# Altium schematic symbol library microlab.SchLib: 6 symbols
Pins are listed as number, name and electrical type; pins without a type are passive.

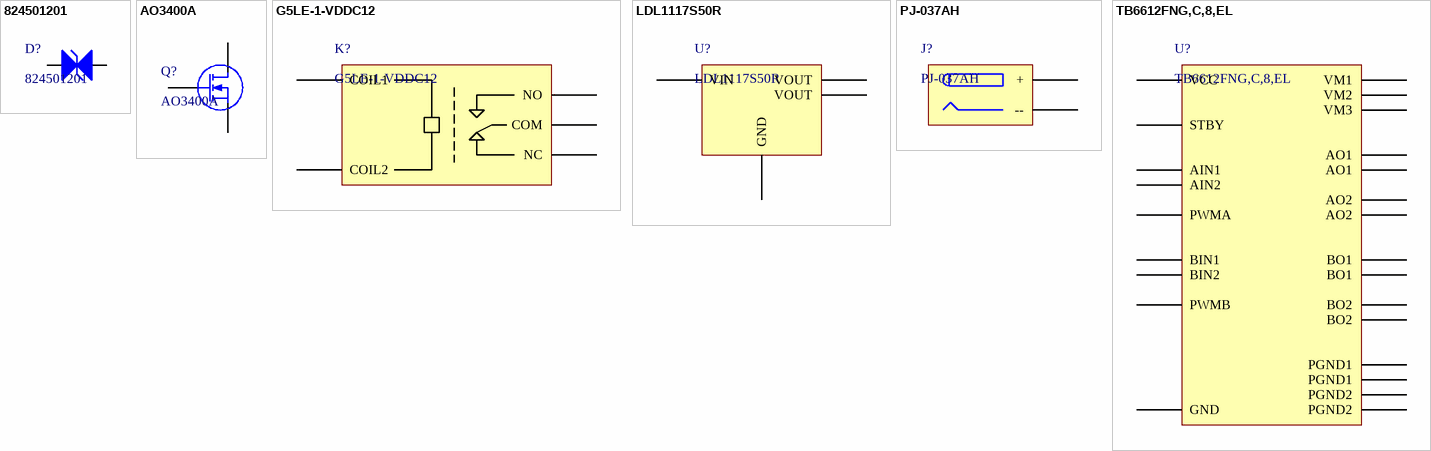
[diagram p0: symbols 824501201 to TB6612FNG,C,8,EL]

## 824501201
designator D?
TVS DIODE 20V 32.4V DO214AC; Digikey: 732-9954-1-ND
footprint 824501201 (DO-214AC)
pins: 1 A, 2 K

## AO3400A
designator Q?
MOSFET N-CH 30V 5.7A SOT23; Digikey: 785-1000-1-ND
footprint AO3400A (SOT-23-3L)
pins: D, G, S

## G5LE-1-VDDC12
designator K?
RELAY GEN PURPOSE SPDT 10A 12V; Digikey: Z3672-ND
footprint G5LE-1-VDDC12 (SPDT (1c))
pins: 1 COM, 2 COIL1, 3 NO, 4 NC, 5 COIL2

## LDL1117S50R
designator U?
IC REG LINEAR 5V 1.2A SOT223; Digikey: 497-17240-1-ND
footprint LDL1117S50R (SOT-223)
pins: 1 GND, 2 VOUT, 3 VIN, 4 VOUT

## PJ-037AH
designator J?
CONN PWR JACK 2X5.5MM SOLDER; Digikey: CP-037AH-ND
footprint PJ-037AH
pins: 1 +, 2 --

## TB6612FNG,C,8,EL
designator U?
IC MOTOR DRIVER PAR 24SSOP; Digikey: TB6612FNGC8ELCT-ND
footprint TB6612FNG,C,8,EL (24-SSOP)
pins: 1 AO1, 2 AO1, 3 PGND1, 4 PGND1, 5 AO2, 6 AO2, 7 BO2, 8 BO2, 9 PGND2, 10 PGND2, 11 BO1, 12 BO1, 13 VM2, 14 VM3, 15 PWMB, 16 BIN2, 17 BIN1, 18 GND, 19 STBY, 20 VCC, 21 AIN1, 22 AIN2, 23 PWMA, 24 VM1